# Altium schematic symbol library Silicon.SchLib: 11 symbols
Pins are listed as number, name and electrical type; pins without a type are passive.

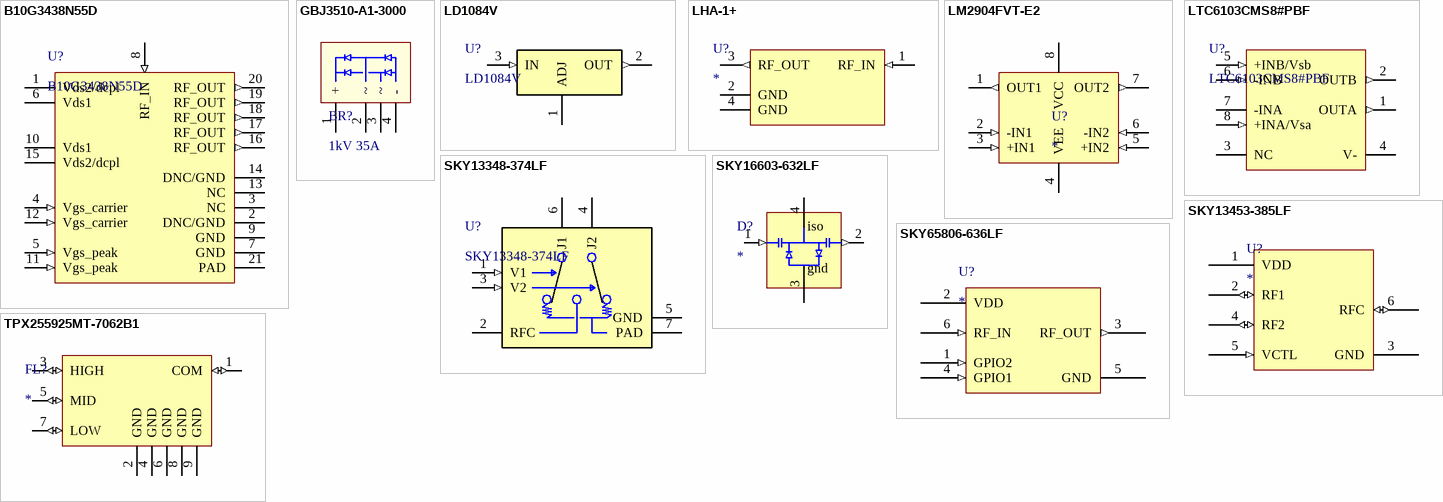
[diagram p0: symbols B10G3438N55D to TPX255925MT-7062B1]

## B10G3438N55D
designator U?
RF Mosfet LDMOS 28 V 75 mA 3.4GHz ~ 3.8GHz 34.2dB 47.5dBm
footprint QFN115P800X800X220_HS-21N (QFN, 20-Leads, Body 8.00x8.00mm, Pitch 1.15mm, Thermal Pad 4.63x4.62mm, IPC Medium Density)
pins: 1 Vds2/dcpl (power) "drain-source voltage of final stages / video-lead for decoupling", 2 DNC/GND "no connect or ground", 3 NC (hiz) "no connect or ground", 4 Vgs_carrier (in), 5 Vgs_peak (in), 6 Vds1 (power) "Driver stage drain-source", 7 GND (power), 8 RF_IN (in), 9 GND (power), 10 Vds1 (power) "Driver stage drain-source", 11 Vgs_peak (in), 12 Vgs_carrier (in), 13 NC (hiz), 14 DNC/GND (power), 15 Vds2/dcpl (power) "drain-source voltage of final stages / video-lead for decoupling", 16 RF_OUT (out), 17 RF_OUT (out), 18 RF_OUT (out), 19 RF_OUT (out), 20 RF_OUT (out), 21 PAD (power)

## GBJ3510-A1-3000
designator BR?, comment 1kV 35A
RECT BRIDGE 1000V 35A 6KBJ; Supplier 1: DigiKey; Supplier Part Number 1: 3191-GBJ3510-A1-3000-ND
pins: 1 + (power), 2 ~ (power), 3 ~ (power), 4 - (power)

## LD1084V
designator U?
Linear Voltage Regulator IC Positive Adjustable 1 Output 5A TO-220; Mfr_Name: STMicroelectronics; Copyright: Copyright (C) 2022 Ultra Librarian. All rights reserved.; Manufacturer_Part_Number: LD1084V; Digi-Key_Part_Number_1: 497-3413-5-ND; RefDes: RefDes; Type: DEV
footprint TO-220FP_STM
pins: 1 ADJ, 2 OUT (out), 3 IN (in)

## LHA-1+
designator U?
0.05 to 6 GHz Gain Block, 14dB,  P1dB 22.7 dBm
footprint FG873 (Minicircuits package)
pins: 1 RF_IN (in), 2 GND (power), 3 RF_OUT (out), 4 GND (power)

## LM2904FVT-E2
designator U?
General Purpose Amplifier 2 Circuit Push-Pull 8-TSSOP-B
footprint TSOP65P640X120-8N (TSOP, 8-Leads, Body 3.00x4.40mm, Pitch 0.65mm, IPC Medium Density)
pins: 1 OUT1 (out), 2 -IN1 (in), 3 +IN1 (in), 4 VEE (power), 5 +IN2 (in), 6 -IN2 (in), 7 OUT2 (out), 8 VCC (power)

## LTC6103CMS8#PBF
designator U?
IC CURRENT SENSE 2 CIRCUIT 8MSOP
footprint TSOP65P640X120-8N (TSOP, 8-Leads, Body 3.00x4.40mm, Pitch 0.65mm, IPC Medium Density)
pins: 1 OUTA (out), 2 OUTB (out), 3 NC (hiz), 4 V- (power), 5 +INB/Vsb (in), 6 -INB (in), 7 -INA (power), 8 +INA/Vsa (in)

## SKY13348-374LF
designator U?
RF Switch IC SPDT 6 GHz 50Ohm 37dBm 6-MLPD (1.5x1.5); Mfr_Name: Skyworks; Copyright: Copyright (C) 2022 Ultra Librarian. All rights reserved.; Manufacturer_Part_Number: SKY13348-374LF; Digi-Key_Part_Number_1: 863-1335-1-ND; Digi-Key_Part_Number_2: 863-1335-2-ND; Digi-Key_Part_Number_3: 863-1335-6-ND; RefDes: RefDes; Type: DEV; Supplier 1: Digi-Key; Supplier Part Number 1: 863-1335-1-ND
footprint SON7_1p5sq_SKY
pins: 1 V1 (in), 2 RFC, 3 V2 (in), 4 J2, 5 GND (power), 6 J1, 7 PAD (power)

## SKY13453-385LF
designator U?
RF Switch IC WLAN SPDT 6 GHz 50Ohm 6-QFN (1x1)
footprint SKY13453-385LF
pins: 1 VDD (power), 2 RF1 (io), 3 GND (power), 4 RF2 (io), 5 VCTL (in), 6 RFC (io)

## SKY16603-632LF
designator D?
dual-pin limiter diode, 0.6-6GHz, +8dBm threshold
footprint SKY16603-632LF
pins: 1 RF_IN (in), 2 RF_OUT (out), 3 GND (power), 4 PAD (hiz)
text: iso; gnd

## SKY65806-636LF
designator U?
IC RF AMP LNA 3.4GHZ-3.8GHZ
footprint SKY65806-636LF
pins: 1 GPIO2 (in), 2 VDD (power), 3 RF_OUT (out), 4 GPIO1 (in), 5 GND (power), 6 RF_IN (in)

## TPX255925MT-7062B1
designator FL?
RF Triplexer 617MHz ~ 2.69GHz / 3.3 ~ 4.2GHz / 5.15GHz ~ 5.925GHz 1008 (2520 Metric), 9 PC Pad
footprint TDK_1008_(2520_Metric),9_PC_Pad
pins: 1 COM (io), 2 GND (power), 3 HIGH (io), 4 GND (power), 5 MID (io), 6 GND (power), 7 LOW (io), 8 GND (power), 9 GND (power)